# Altium integrated library TI Power Management Linear Regulator Single Channel LDO (0-350mA).IntLib: 1648 symbols (part 66 of 66)
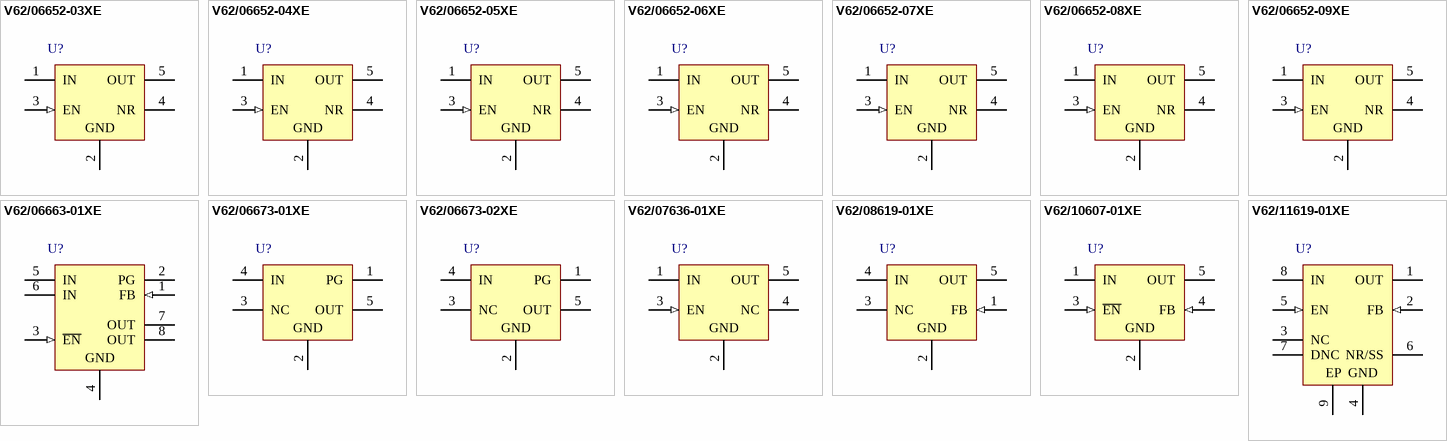
[diagram p107: symbols V62/06652-03XE to V62/11619-01XE]

## V62/08619-01XE
designator U?
Single Output LDO, 50 mA, Adjustable 1.2 to 15 V Output, 3 to 24 V Input, 5-pin SC70 (DCK), -55 to 125 degC, Green (RoHS & no Sb/Br); Manufacturer: Texas Instruments; PartNumber: V62/08619-01XE; Accuracy(%): 4; Iout(Max)(A): 0.05; Iq(Typ)(mA): 0.003; SubFamily: Single Channel LDO; Vdo(Typ)(mV): 415; Vin(Max)(V): 24; Vin(Min)(V): 3; Vout Adj(Max)(V): 15; Vout Adj(Min)(V): 1.2; DatasheetVersion: SGLS396; PackageVersion: 4093553-3/G; PackageReference: DCK5; PackageDescription: 5-Pin Plastic Small-Outline, Body 2 x 1.25 mm, Pitch 0.65 mm; Supplier 1: Mouser; Supplier Part Number 1: 595-V62/08619-01XE; Eco-Plan: Green (RoHS & no Sb/Br); Mounting Technology: Surface Mount; Code_JEDEC: MO-203; ComponentLink1Description: Manufacturer URL; ComponentLink1URL: http://www.ti.com/; ComponentLink2Description: Datasheet; ComponentLink2URL: http://www.ti.com/general/docs/lit/getliterature.tsp?genericPartNumber=TPS71501-EP&fileType=pdf; ComponentLink3Description: Package Specification; ComponentLink3URL: http://www.ti.com/litv/pdf/mpds025f
footprint TI-DCK5_V (SOT23, 5-Leads, Body 2x1.25mm, Pitch 0.65mm)
pins: 1 FB (in) "Feedback. This terminal is used to set the output voltage.", 2 GND (power) "Ground", 3 NC "No connection", 4 IN (power) "Input supply", 5 OUT (power) "Output of the regulator, any output capacitor >= 0.47 uF can be used for stability."

## V62/10607-01XE
designator U?
Single Output LDO, 100 mA, Adjustable 1.2 to 5.5 V Output, 2.7 to 10 V Input, with Ultra Low Power, 5-pin SOT-23 (DBV), -55 to 150 degC, Green (RoHS & no Sb/Br); Manufacturer: Texas Instruments; PartNumber: V62/10607-01XE; Accuracy(%): 3; Iout(Max)(A): 0.1; Iq(Typ)(mA): 0.02; Rating: HiRel Enhanced Product; SubFamily: Single Channel LDO; Vdo(Typ)(mV): 71; Vin(Max)(V): 10; Vin(Min)(V): 2.7; Vout Adj(Max)(V): 5.5; Vout Adj(Min)(V): 1.2; DatasheetVersion: SLVSA53A; PackageVersion: 4073253-4/K; PackageReference: DBV5; PackageDescription: 5-Pin Plastic Small Outline, Body 1.60 × 2.90 mm, Pitch 0.95 mm; Supplier 1: Mouser; Supplier Part Number 1: 595-V62/10607-01XE; Eco-Plan: Green (RoHS & no Sb/Br); Mounting Technology: Surface Mount; Code_JEDEC: MO-178; ComponentLink1Description: Manufacturer URL; ComponentLink1URL: http://www.ti.com/; ComponentLink2Description: Datasheet; ComponentLink2URL: http://www.ti.com/general/docs/lit/getliterature.tsp?genericPartNumber=TPS76901-EP&fileType=pdf; ComponentLink3Description: Package Specification; ComponentLink3URL: http://www.ti.com/litv/pdf/mpds018i; ComponentLink4Description: URL Link1; ComponentLink4URL: Samples URL:http://www.ti.com/product/tps76901-ep#samples
footprint TI-DBV5_N (SOT23, 5-Leads, Body 2.9x1.6mm, Pitch 0.95mm, IPC Medium Density)
footprint TI-DBV5_L (SOT23, 5-Leads, Body 2.9x1.6mm, Pitch 0.95mm, IPC High Density)
footprint TI-DBV5_M (SOT23, 5-Leads, Body 2.9x1.6mm, Pitch 0.95mm, IPC Low Density)
pins: 1 IN (power) "Input to the device", 2 GND (power) "Ground pin", 3 ~{EN} (in) "Enable input", 4 FB (in) "Feedback voltage", 5 OUT (power) "Regulated output voltage"

## V62/11619-01XE
designator U?
Single Output High PSRR LDO, 200 mA, Adjustable -1.18 to -33 V Output, -3 to -36 V Input, with Ultra-Low Noise, 8-pin MSOP (DGN), -55 to 125 degC, Green (RoHS & no Sb/Br); Manufacturer: Texas Instruments; PartNumber: V62/11619-01XE; Accuracy(%): 1.5; Iout(Max)(A): 0.2; Iq(Typ)(mA): 0.05; SubFamily: Single Channel LDO; Vdo(Typ)(mV): 216; DatasheetVersion: SBVS174; PackageVersion: 4073271/F; PackageReference: DGN8-1760X1425TP; PackageDescription: 8-pin Plastic Small Outline, Body 3 x 3 mm, Pitch 0.65 mm; Supplier 1: Mouser; Supplier Part Number 1: 595-V62/11619-01XE; Eco-Plan: Green (RoHS & no Sb/Br); Vin(Max)(V): -36; Vin(Min)(V): -3; Vout Adj(Max)(V): -33; Vout Adj(Min)(V): -1.18; Mounting Technology: Surface Mount; Code_JEDEC: MO-187; ComponentLink1Description: Manufacturer URL; ComponentLink1URL: http://www.ti.com/; ComponentLink2Description: Datasheet; ComponentLink2URL: http://www.ti.com/general/docs/lit/getliterature.tsp?genericPartNumber=TPS7A3001-EP&fileType=pdf; ComponentLink3Description: Package Specification; ComponentLink3URL: http://www.ti.com/litv/pdf/mpds046e
footprint TI-DGN8-1760X1425TP_N (SOIC, 8-Leads, Body 3x3mm, Pitch 0.65mm, Thermal Pad 1.76x1.425mm, IPC Medium Density)
footprint TI-DGN8-1760X1425TP_L (SOIC, 8-Leads, Body 3x3mm, Pitch 0.65mm, Thermal Pad 1.76x1.425mm, IPC High Density)
footprint TI-DGN8-1760X1425TP_M (SOIC, 8-Leads, Body 3x3mm, Pitch 0.65mm, Thermal Pad 1.76x1.425mm, IPC Low Density)
pins: 1 OUT (power) "Regulator output. A capacitor >= 2.2uF must be tied from this pin to ground to assure stability.", 2 FB (in) "This pin is the input to the control-loop error amplifier. It is used to set the output voltage of the device", 3 NC "Not internally connected. This pin must either be left open or tied to GND.", 4 GND (power) "Ground", 5 EN (in), 6 NR/SS "Noise reduction pin. Connecting an external capacitor to this pin bypasses noise generated by the internal bandgap. This capacitor allows RMS noise to be reduced to very low levels and also controls the soft-start function.", 7 DNC "DO NOT CONNECT. Do not route this pin to any electrical net, not even GND or IN.", 8 IN (power) "Input supply", 9 EP (power) "Must either be left open or tied to GND. Solder to printed circuit board (PCB) plane to enhance thermal performance."